# Altium footprint library Relays.PcbLib: 1 footprints
Each footprint in its own frame and in the unit in brackets; x right, y up, seen from the top. Pads: shape width x height; smd on the part's side, far side on the other; paste and mask are expansions set on the pad; w line width, h text height; cw(c..) or ccw(c..) is an arc to the next point about the centre after c.
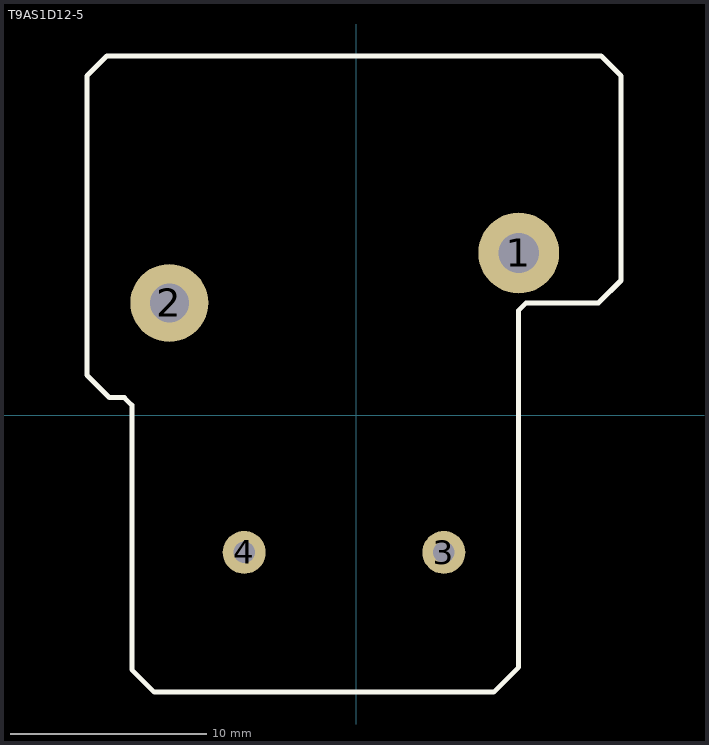
[diagram p0: the footprint, top view; thin cyan lines are the x and y axes]

## T9AS1D12-5 [mil] "RELAY GEN PURPOSE SPST 30A 5V"
height 805
pads (4):
  round 162 hole 81: 1(325,325)
  round 156 hole 78: 2(-375,225)
  round 86 hole 43: 3(175,-275) 4(-225,-275)
Top Overlay:
  lines w10: -540,80 -495,35 -465,35 -450,20 -450,-461.25 -450,-510 -405,-555 -325,-555 275,-555 325,-505 325,210 340,225 485,225 530,270 530,680 490,720 -500,720 -540,680 -540,80
3D body "c-2-1393210-0-h-3d.stp": height 806, standoff -129, extent -544.99,-555 535.01,725